# EAGLE library part EPM7256-P192 (library altera)
EPM7256E MAX 7000 family
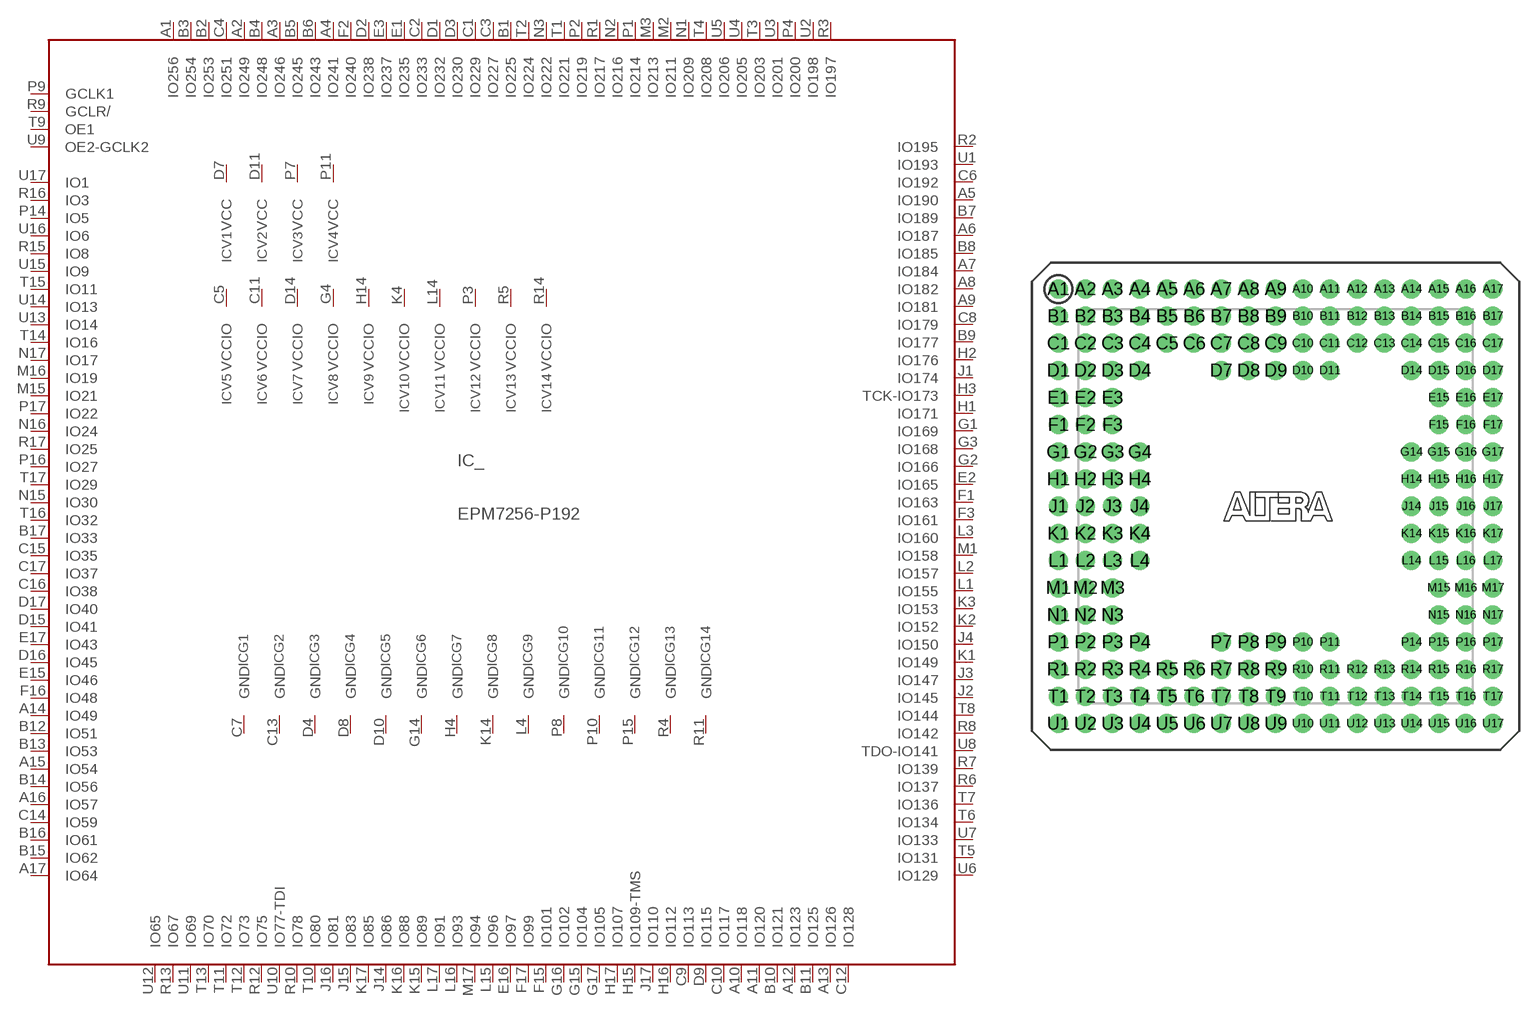
[diagram p38: symbol with the pads of PGA192; footprint PGA192]

Designator prefix IC; gates _=7256R208 G1=GND G2=GND G3=GND G4=GND G5=GND G6=GND G7=GND G8=GND G9=GND G10=GND G11=GND G12=GND G13=GND G14=GND V1=VCCINT V2=VCCINT V3=VCCINT V4=VCCINT V5=VCCIO V6=VCCIO V7=VCCIO V8=VCCIO V9=VCCIO V10=VCCIO V11=VCCIO V12=VCCIO V13=VCCIO V14=VCCIO

## EPM7256-P192 (OC_FARNELL: unknown; OC_NEWARK: unknown)  [PGA192]
A1  _:IO256
A2  _:IO249
A3  _:IO246
A4  _:IO241
A5  _:IO190
A6  _:IO187
A7  _:IO184
A8  _:IO182
A9  _:IO181
A10  _:IO118
A11  _:IO120
A12  _:IO123
A13  _:IO126
A14  _:IO49
A15  _:IO54
A16  _:IO57
A17  _:IO64
B1  _:IO225
B2  _:IO253
B3  _:IO254
B4  _:IO248
B5  _:IO245
B6  _:IO243
B7  _:IO189
B8  _:IO185
B9  _:IO177
B10  _:IO121
B11  _:IO125
B12  _:IO51
B13  _:IO53
B14  _:IO56
B15  _:IO62
B16  _:IO61
B17  _:IO33
C1  _:IO229
C2  _:IO233
C3  _:IO227
C4  _:IO251
C5  V5:VCCIO  pwr
C6  _:IO192
C7  G1:GND  pwr
C8  _:IO179
C9  _:IO113
C10  _:IO117
C11  V6:VCCIO  pwr
C12  _:IO128
C13  G2:GND  pwr
C14  _:IO59
C15  _:IO35
C16  _:IO38
C17  _:IO37
D1  _:IO232
D2  _:IO238
D3  _:IO230
D4  G3:GND  pwr
D7  V1:VCC  pwr
D8  G4:GND  pwr
D9  _:IO115
D10  G5:GND  pwr
D11  V2:VCC  pwr
D14  V7:VCCIO  pwr
D15  _:IO41
D16  _:IO45
D17  _:IO40
E1  _:IO235
E2  _:IO165
E3  _:IO237
E15  _:IO46
E16  _:IO97
E17  _:IO43
F1  _:IO163
F2  _:IO240
F3  _:IO161
F15  _:IO101
F16  _:IO48
F17  _:IO99
G1  _:IO169
G2  _:IO166
G3  _:IO168
G4  V8:VCCIO  pwr
G14  G6:GND  pwr
G15  _:IO104
G16  _:IO102
G17  _:IO105
H1  _:IO171
H2  _:IO176
H3  _:TCK-IO173
H4  G7:GND  pwr
H14  V9:VCCIO  pwr
H15  _:IO109-TMS
H16  _:IO112
H17  _:IO107
J1  _:IO174
J2  _:IO145
J3  _:IO147
J4  _:IO150
J14  _:IO86
J15  _:IO83
J16  _:IO81
J17  _:IO110
K1  _:IO149
K2  _:IO152
K3  _:IO153
K4  V10:VCCIO  pwr
K14  G8:GND  pwr
K15  _:IO89
K16  _:IO88
K17  _:IO85
L1  _:IO155
L2  _:IO157
L3  _:IO160
L4  G9:GND  pwr
L14  V11:VCCIO  pwr
L15  _:IO96
L16  _:IO93
L17  _:IO91
M1  _:IO158
M2  _:IO211
M3  _:IO213
M15  _:IO21
M16  _:IO19
M17  _:IO94
N1  _:IO209
N2  _:IO216
N3  _:IO222
N15  _:IO30
N16  _:IO24
N17  _:IO17
P1  _:IO214
P2  _:IO219
P3  V12:VCCIO  pwr
P4  _:IO200
P7  V3:VCC  pwr
P8  G10:GND  pwr
P9  _:GCLK1  in
P10  G11:GND  pwr
P11  V4:VCC  pwr
P14  _:IO5
P15  G12:GND  pwr
P16  _:IO27
P17  _:IO22
R1  _:IO217
R2  _:IO195
R3  _:IO197
R4  G13:GND  pwr
R5  V13:VCCIO  pwr
R6  _:IO137
R7  _:IO139
R8  _:IO142
R9  _:GCLR/  in
R10  _:IO78
R11  G14:GND  pwr
R12  _:IO75
R13  _:IO67
R14  V14:VCCIO  pwr
R15  _:IO8
R16  _:IO3
R17  _:IO25
T1  _:IO221
T2  _:IO224
T3  _:IO203
T4  _:IO208
T5  _:IO131
T6  _:IO134
T7  _:IO136
T8  _:IO144
T9  _:OE1  in
T10  _:IO80
T11  _:IO72
T12  _:IO73
T13  _:IO70
T14  _:IO16
T15  _:IO11
T16  _:IO32
T17  _:IO29
U1  _:IO193
U2  _:IO198
U3  _:IO201
U4  _:IO205
U5  _:IO206
U6  _:IO129
U7  _:IO133
U8  _:TDO-IO141
U9  _:OE2-GCLK2  in
U10  _:IO77-TDI
U11  _:IO69
U12  _:IO65
U13  _:IO14
U14  _:IO13
U15  _:IO9
U16  _:IO6
U17  _:IO1

## Footprint PGA192 (pad centres in mm)
Pin Grid Array
drill 0.813 pad 1.778: A1 -20.32,20.32; A2 -17.78,20.32; A3 -15.24,20.32; A4 -12.7,20.32; A5 -10.16,20.32; A6 -7.62,20.32; A7 -5.08,20.32; A8 -2.54,20.32; A9 0,20.32; A10 2.54,20.32; A11 5.08,20.32; A12 7.62,20.32; A13 10.16,20.32; A14 12.7,20.32; A15 15.24,20.32; A16 17.78,20.32; A17 20.32,20.32; B1 -20.32,17.78; B2 -17.78,17.78; B3 -15.24,17.78; B4 -12.7,17.78; B5 -10.16,17.78; B6 -7.62,17.78; B7 -5.08,17.78; B8 -2.54,17.78; B9 0,17.78; B10 2.54,17.78; B11 5.08,17.78; B12 7.62,17.78; B13 10.16,17.78; B14 12.7,17.78; B15 15.24,17.78; B16 17.78,17.78; B17 20.32,17.78; C1 -20.32,15.24; C2 -17.78,15.24; C3 -15.24,15.24; C4 -12.7,15.24; C5 -10.16,15.24; C6 -7.62,15.24; C7 -5.08,15.24; C8 -2.54,15.24; C9 0,15.24; C10 2.54,15.24; C11 5.08,15.24; C12 7.62,15.24; C13 10.16,15.24; C14 12.7,15.24; C15 15.24,15.24; C16 17.78,15.24; C17 20.32,15.24; D1 -20.32,12.7; D2 -17.78,12.7; D3 -15.24,12.7; D4 -12.7,12.7; D7 -5.08,12.7; D8 -2.54,12.7; D9 0,12.7; D10 2.54,12.7; D11 5.08,12.7; D14 12.7,12.7; D15 15.24,12.7; D16 17.78,12.7; D17 20.32,12.7; E1 -20.32,10.16; E2 -17.78,10.16; E3 -15.24,10.16; E15 15.24,10.16; E16 17.78,10.16; E17 20.32,10.16; F1 -20.32,7.62; F2 -17.78,7.62; F3 -15.24,7.62; F15 15.24,7.62; F16 17.78,7.62; F17 20.32,7.62; G1 -20.32,5.08; G2 -17.78,5.08; G3 -15.24,5.08; G4 -12.7,5.08; G14 12.7,5.08; G15 15.24,5.08; G16 17.78,5.08; G17 20.32,5.08; H1 -20.32,2.54; H2 -17.78,2.54; H3 -15.24,2.54; H4 -12.7,2.54; H14 12.7,2.54; H15 15.24,2.54; H16 17.78,2.54; H17 20.32,2.54; J1 -20.32,0; J2 -17.78,0; J3 -15.24,0; J4 -12.7,0; J14 12.7,0; J15 15.24,0; J16 17.78,0; J17 20.32,0; K1 -20.32,-2.54; K2 -17.78,-2.54; K3 -15.24,-2.54; K4 -12.7,-2.54; K14 12.7,-2.54; K15 15.24,-2.54; K16 17.78,-2.54; K17 20.32,-2.54; L1 -20.32,-5.08; L2 -17.78,-5.08; L3 -15.24,-5.08; L4 -12.7,-5.08; L14 12.7,-5.08; L15 15.24,-5.08; L16 17.78,-5.08; L17 20.32,-5.08; M1 -20.32,-7.62; M2 -17.78,-7.62; M3 -15.24,-7.62; M15 15.24,-7.62; M16 17.78,-7.62; M17 20.32,-7.62; N1 -20.32,-10.16; N2 -17.78,-10.16; N3 -15.24,-10.16; N15 15.24,-10.16; N16 17.78,-10.16; N17 20.32,-10.16; P1 -20.32,-12.7; P2 -17.78,-12.7; P3 -15.24,-12.7; P4 -12.7,-12.7; P7 -5.08,-12.7; P8 -2.54,-12.7; P9 0,-12.7; P10 2.54,-12.7; P11 5.08,-12.7; P14 12.7,-12.7; P15 15.24,-12.7; P16 17.78,-12.7; P17 20.32,-12.7; R1 -20.32,-15.24; R2 -17.78,-15.24; R3 -15.24,-15.24; R4 -12.7,-15.24; R5 -10.16,-15.24; R6 -7.62,-15.24; R7 -5.08,-15.24; R8 -2.54,-15.24; R9 0,-15.24; R10 2.54,-15.24; R11 5.08,-15.24; R12 7.62,-15.24; R13 10.16,-15.24; R14 12.7,-15.24; R15 15.24,-15.24; R16 17.78,-15.24; R17 20.32,-15.24; T1 -20.32,-17.78; T2 -17.78,-17.78; T3 -15.24,-17.78; T4 -12.7,-17.78; T5 -10.16,-17.78; T6 -7.62,-17.78; T7 -5.08,-17.78; T8 -2.54,-17.78; T9 0,-17.78; T10 2.54,-17.78; T11 5.08,-17.78; T12 7.62,-17.78; T13 10.16,-17.78; T14 12.7,-17.78; T15 15.24,-17.78; T16 17.78,-17.78; T17 20.32,-17.78; U1 -20.32,-20.32; U2 -17.78,-20.32; U3 -15.24,-20.32; U4 -12.7,-20.32; U5 -10.16,-20.32; U6 -7.62,-20.32; U7 -5.08,-20.32; U8 -2.54,-20.32; U9 0,-20.32; U10 2.54,-20.32; U11 5.08,-20.32; U12 7.62,-20.32; U13 10.16,-20.32; U14 12.7,-20.32; U15 15.24,-20.32; U16 17.78,-20.32; U17 20.32,-20.32